# Altium footprint library TL4051AIDBZT.PcbLib: 3 footprints
Each footprint in its own frame and in the unit in brackets; x right, y up, seen from the top. Pads: shape width x height; smd on the part's side, far side on the other; paste and mask are expansions set on the pad; w line width, h text height; cw(c..) or ccw(c..) is an arc to the next point about the centre after c.
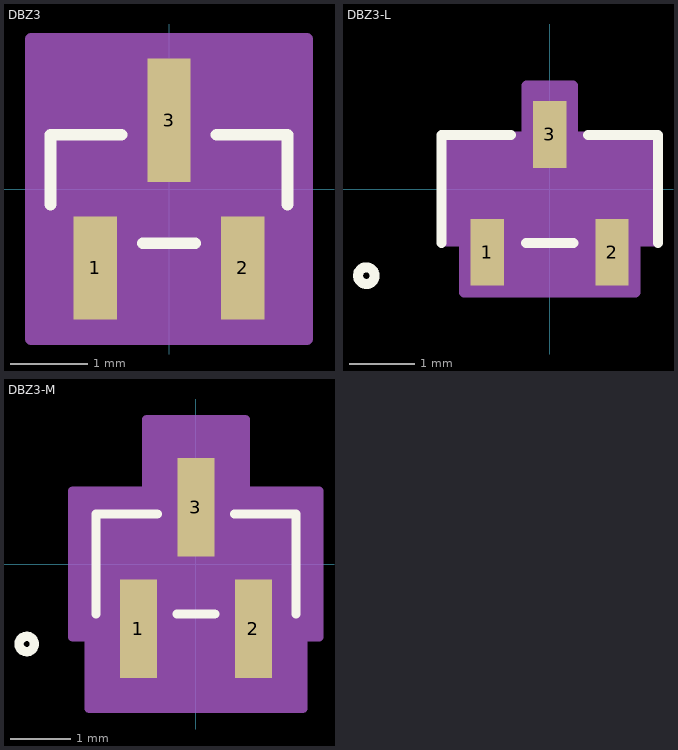
[diagram p0: the footprints below, top view; thin cyan lines are the x and y axes]

## DBZ3 [mil]
pads (3):
  rect 22x52 smd paste-26 mask-26: 1(-37.4,-40) 2(37.4,-40)
  rect 22x62.5 smd paste-31.25 mask-31: 3(0,34.75)
Top Overlay:
  lines w6: -60,-7.91 -60,27.5 -24.1,27.5 ; -13.3,-27.5 13.3,-27.5 ; 24.1,27.5 60,27.5 60,-7.91
Mechanical 13:
  lines w1: -60,-27.5 60,-27.5 60,27.5 -60,27.5 -60,-27.5 ; -47.4,-52 -47.4,-27.5 -27.4,-27.5 -27.4,-52 -47.4,-52 ; -10,27.5 10,27.5 10,52 -10,52 -10,27.5 ; 27.4,-52 27.4,-27.5 47.4,-27.5 47.4,-52 27.4,-52
Mechanical 15:
  region: 70,-76 -70,-76 -70,76 70,76
  lines w6: -70,-76 -70,76 70,76 70,-76 -70,-76
3D body "DBZ3.step": height 44.09, standoff 0, extent -60,-27.48 60,27.48

## DBZ3-L [mil]
pads (3):
  rect 20x40 smd paste+5.25 mask+5: 1(-37.4,-38) 2(37.4,-38) 3(0,32.75)
Top Overlay:
  circle w6: c-110,-52 r5
  lines w6: -65,-32.5 -65,32.5 -23.1,32.5 ; -14.3,-32.5 14.3,-32.5 ; 23.1,32.5 65,32.5 65,-32.5
Mechanical 13:
  circle w0: c-50,-17.5 r5
  lines w1: -60,-27.5 60,-27.5 60,27.5 -60,27.5 -60,-27.5 ; -47.4,-52 -47.4,-27.5 -27.4,-27.5 -27.4,-52 -47.4,-52 ; -10,27.5 10,27.5 10,52 -10,52 -10,27.5 ; 27.4,-52 27.4,-27.5 47.4,-27.5 47.4,-52 27.4,-52
Mechanical 15:
  region: -64,-31.5 -64,31.5 -14,31.5 -14,62 14,62 14,31.5 64,31.5 64,-31.5 51.4,-31.5 51.4,-62 -51.4,-62 -51.4,-31.5
  region: 60,-27.5 -60,-27.5 -60,27.5 60,27.5
  lines w6: -64,-31.5 -64,31.5 -14,31.5 -14,62 14,62 14,31.5 64,31.5 64,-31.5 51.4,-31.5 51.4,-62 -51.4,-62 -51.4,-31.5 -64,-31.5
3D body "DBZ3.step": height 44.09, standoff 0, extent -60,-27.48 60,27.48

## DBZ3-M [mil]
pads (3):
  rect 24x64 smd paste+5.25 mask+5: 1(-37.4,-42) 2(37.4,-42) 3(0,36.75)
Top Overlay:
  circle w6: c-110,-52 r5
  lines w6: -65,-32.5 -65,32.5 -25.1,32.5 ; -12.3,-32.5 12.3,-32.5 ; 25.1,32.5 65,32.5 65,-32.5
Mechanical 13:
  circle w0: c-50,-17.5 r5
  lines w1: -60,-27.5 60,-27.5 60,27.5 -60,27.5 -60,-27.5 ; -47.4,-52 -47.4,-27.5 -27.4,-27.5 -27.4,-52 -47.4,-52 ; -10,27.5 10,27.5 10,52 -10,52 -10,27.5 ; 27.4,-52 27.4,-27.5 47.4,-27.5 47.4,-52 27.4,-52
Mechanical 15:
  region: -80,-47.5 -80,47.5 -32,47.5 -32,94 32,94 32,47.5 80,47.5 80,-47.5 69.4,-47.5 69.4,-94 -69.4,-94 -69.4,-47.5
  region: 60,-27.5 -60,-27.5 -60,27.5 60,27.5
  lines w6: -80,-47.5 -80,47.5 -32,47.5 -32,94 32,94 32,47.5 80,47.5 80,-47.5 69.4,-47.5 69.4,-94 -69.4,-94 -69.4,-47.5 -80,-47.5
3D body "DBZ3.step": height 44.09, standoff 0, extent -60,-27.48 60,27.48